# EAGLE library part GF-126-0159 (library switch)
SLIDE SWITCH
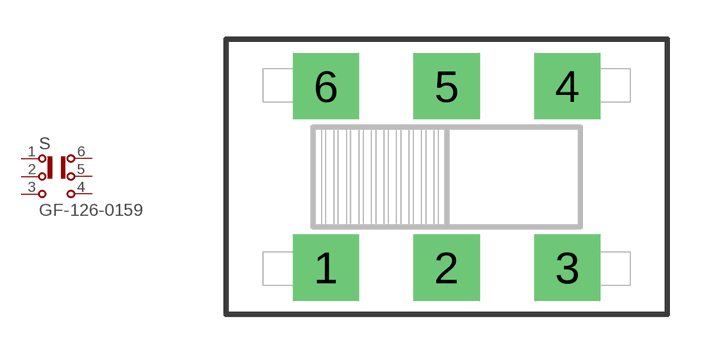
[diagram p14: symbol with the pads of GF-126-0159; footprint GF-126-0159]

Designator prefix S

## GF-126-0159  [GF-126-0159]
1  1  pas
2  2  pas
3  3  pas
4  4  pas
5  5  pas
6  6  pas

## Footprint GF-126-0159 (pad centres in mm)
SWITCH SLIDE DPDT 3A PC MOUNT CW Industries
drill 1.676 square: 1 -4.597,-3.454; 2 0,-3.454; 3 4.597,-3.454; 4 4.597,3.454; 5 0,3.454; 6 -4.597,3.454